# Altium schematic symbol library SCH - ADC - TI ADC10D040.SCHLIB: 1 symbol
Pins are listed as number, name and electrical type; pins without a type are passive.

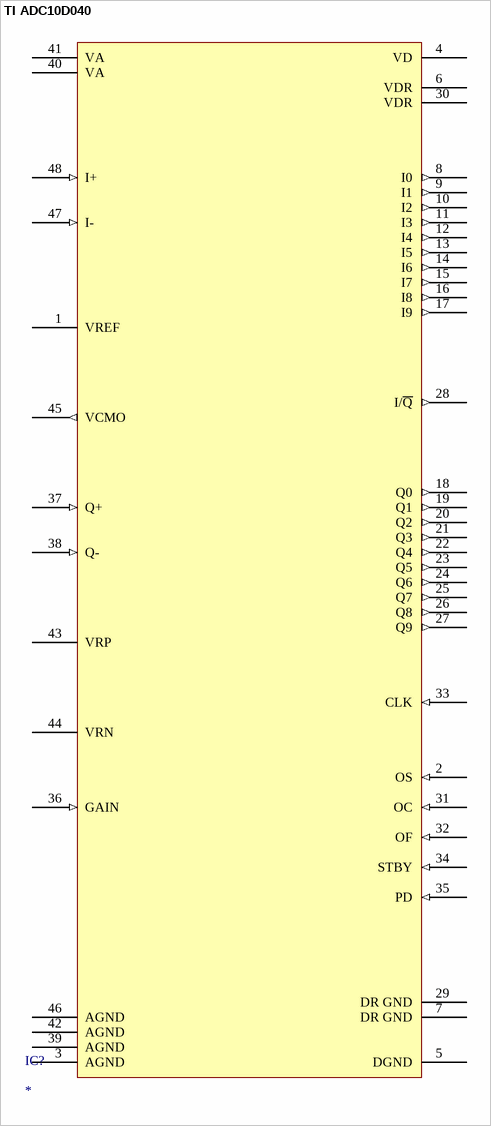
[diagram p0: symbol TI ADC10D040]

## TI ADC10D040
designator IC?
pins: 1 VREF (power), 2 OS (in), 3 AGND (power), 4 VD (power), 5 DGND (power), 6 VDR (power), 7 DR GND (power), 8 I0 (out), 9 I1 (out), 10 I2 (out), 11 I3 (out), 12 I4 (out), 13 I5 (out), 14 I6 (out), 15 I7 (out), 16 I8 (out), 17 I9 (out), 18 Q0 (out), 19 Q1 (out), 20 Q2 (out), 21 Q3 (out), 22 Q4 (out), 23 Q5 (out), 24 Q6 (out), 25 Q7 (out), 26 Q8 (out), 27 Q9 (out), 28 I/~{Q} (out), 29 DR GND (power), 30 VDR (power), 31 OC (in), 32 OF (in), 33 CLK (in), 34 STBY (in), 35 PD (in), 36 GAIN (in), 37 Q+ (in), 38 Q- (in), 39 AGND (power), 40 VA (power), 41 VA (power), 42 AGND (power), 43 VRP (power), 44 VRN (power), 45 VCMO (out), 46 AGND (power), 47 I- (in), 48 I+ (in)